# EAGLE library part PSA08-11SRWA (library PP_LED)
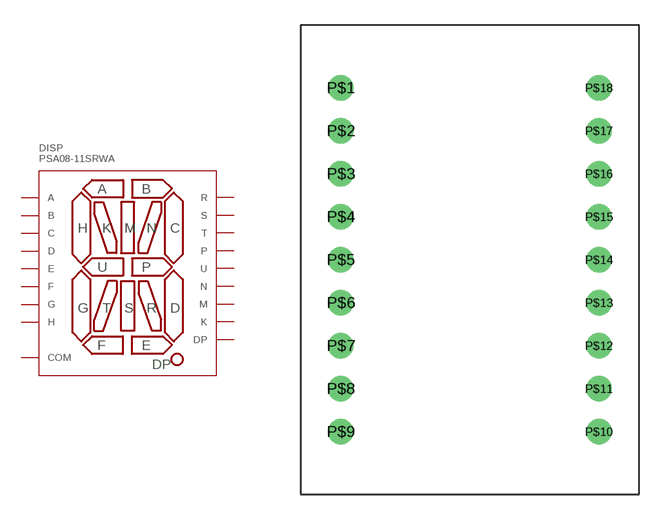
[diagram p1: symbol with the pads of PSA08-11SRWA; footprint PSA08-11SRWA]

Designator prefix DISP

## PSA08-11SRWA  [PSA08-11SRWA]
P$1  A
P$2  M
P$3  K
P$4  H
P$5  U
P$6  S
P$7  T
P$8  G
P$9  F
P$10  E
P$11  COM
P$12  DP
P$13  D
P$14  R
P$15  P
P$16  C
P$17  N
P$18  B

## Footprint PSA08-11SRWA (pad centres in mm)
drill 1: P$1 -7.62,10.16; P$2 -7.62,7.62; P$3 -7.62,5.08; P$4 -7.62,2.54; P$5 -7.62,0; P$6 -7.62,-2.54; P$7 -7.62,-5.08; P$8 -7.62,-7.62; P$9 -7.62,-10.16; P$10 7.62,-10.16; P$11 7.62,-7.62; P$12 7.62,-5.08; P$13 7.62,-2.54; P$14 7.62,0; P$15 7.62,2.54; P$16 7.62,5.08; P$17 7.62,7.62; P$18 7.62,10.16